# EAGLE library part EE25_10P (library l_ysk)
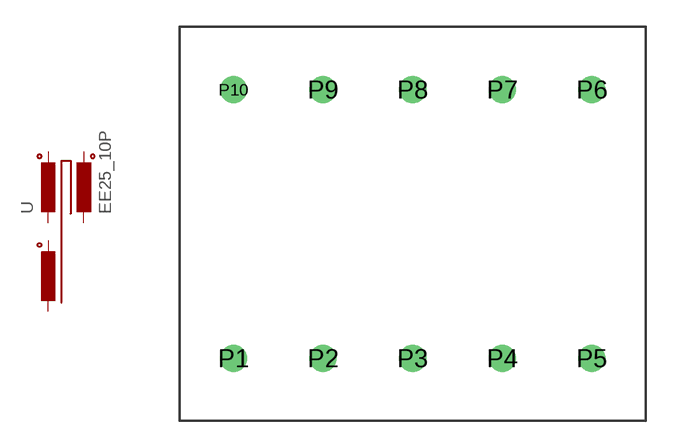
[diagram p0: symbol with the pads of EE25_VERTICAL; footprint EE25_VERTICAL]

Designator prefix -

## EE25_10P  [EE25_VERTICAL]
P1  1  pas
P2  2  pas
P3  3  pas
P4  4  pas
P9  9  pas
P10  10  pas

## Footprint EE25_VERTICAL (pad centres in mm)
drill 1: P1 -10,-7.5; P2 -5,-7.5; P3 0,-7.5; P4 5,-7.5; P5 10,-7.5; P6 10,7.5; P7 5,7.5; P8 0,7.5; P9 -5,7.5; P10 -10,7.5